# Altium schematic symbol library NMOS.SchLib: 1 symbol
Pins are listed as number, name and electrical type; pins without a type are passive.

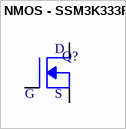
[diagram p0: symbol NMOS - SSM3K333R]

## NMOS - SSM3K333R
designator Q?  (value not drawn)
MOSFET N CH 30V 6A 2-3Z1A; Supplier 1: Digi-Key; Supplier Part Number 1: SSM3K333RLFDKR-ND
footprint NMOS - SSM3K333R - SOTFL95P180X88-3M (SOTFL, 3-Leads, Body 2.90x1.80mm, Pitch 0.95mm, IPC Low Density)
pins: 1 G, 2 S, 3 D